# Altium footprint library Inductors.PcbLib: 12 footprints
Each footprint in its own frame and in the unit in brackets; x right, y up, seen from the top. Pads: shape width x height; smd on the part's side, far side on the other; paste and mask are expansions set on the pad; w line width, h text height; cw(c..) or ccw(c..) is an arc to the next point about the centre after c.
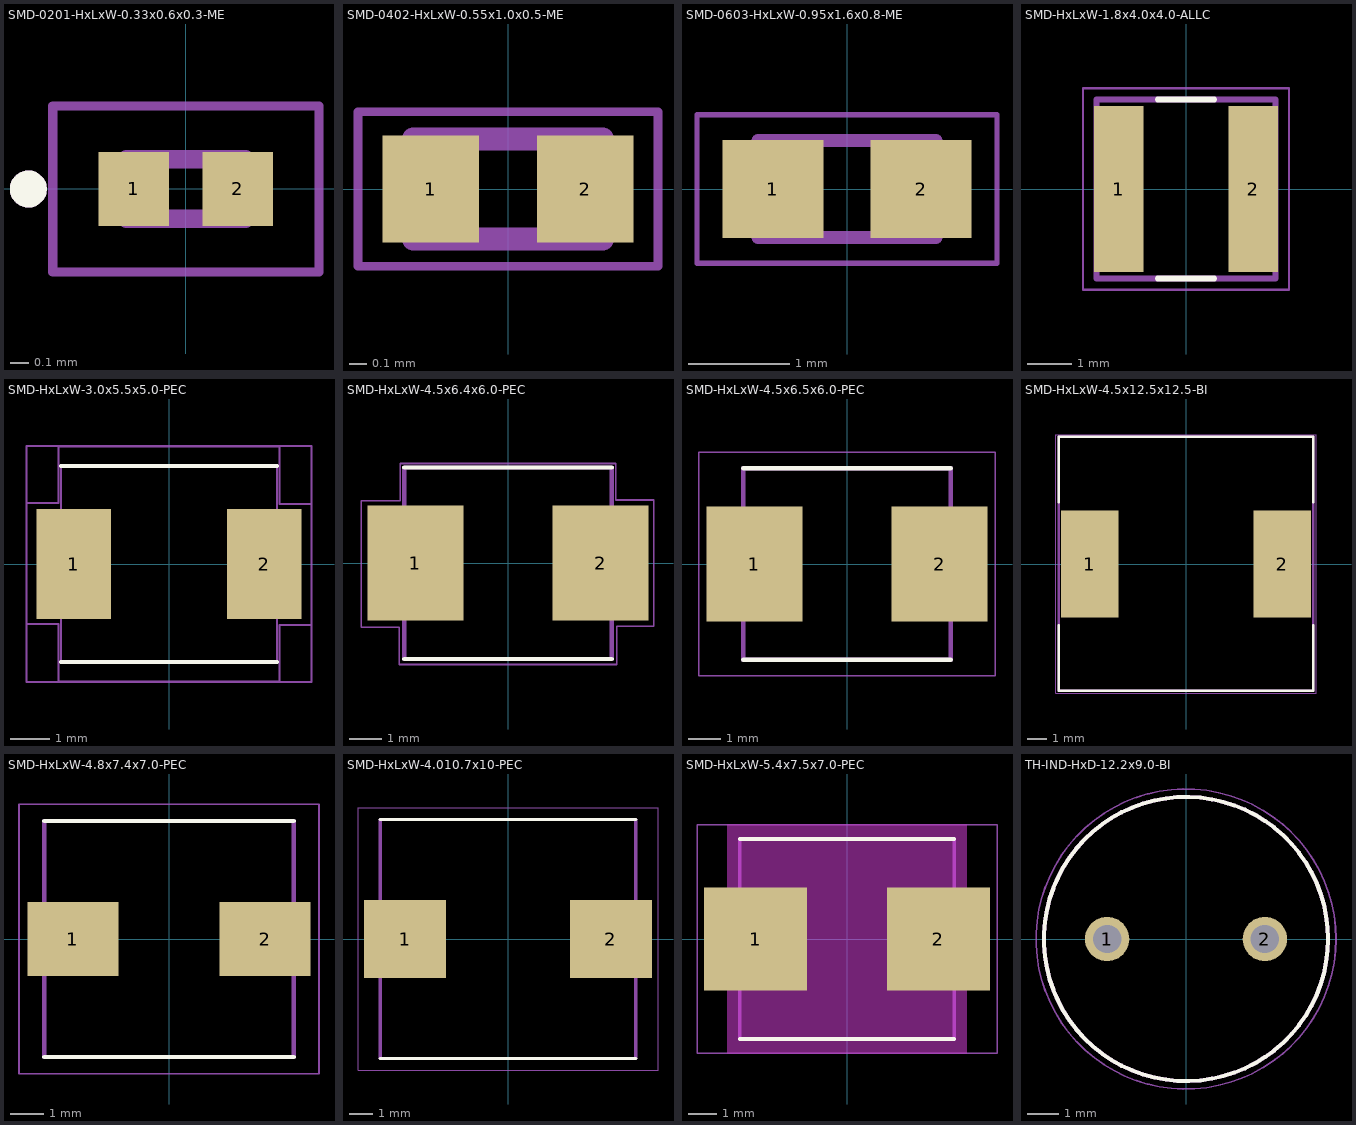
[diagram p0: the footprints below, top view; thin cyan lines are the x and y axes]

## SMD-0201-HxLxW-0.33x0.6x0.3-ME [mm]
pads (2):
  rect 0.38x0.4 smd: 1(-0.281,0) 2(0.281,0)
Top Overlay:
  circle w0.1: c-0.85,0 r0.05
Mechanical 13:
  circle w0.1: c-0.85,0 r0.05
  lines w0.1: -0.32,-0.16 0.32,-0.16 0.32,0.16 -0.32,0.16 -0.32,-0.16
Mechanical 15:
  lines w0.05: -0.718,-0.448 0.718,-0.448 0.718,0.448 -0.718,0.448 -0.718,-0.448
3D body "LQP03TN2N5B02D.step": height 0.33, standoff 0, extent -0.3,-0.15 0.3,0.15

## SMD-0402-HxLxW-0.55x1.0x0.5-ME [mm]
pads (2):
  rect 0.54x0.6 smd: 1(-0.432,0) 2(0.432,0)
Mechanical 1:
  lines w0.127: -0.53,-0.28 -0.53,0.28 0.53,0.28 0.53,-0.28 -0.53,-0.28
Mechanical 13:
  lines w0.127: -0.53,-0.28 -0.53,0.28 0.53,0.28 0.53,-0.28 -0.53,-0.28
Mechanical 15:
  lines w0.05: -0.838,-0.432 -0.838,0.432 0.838,0.432 0.838,-0.432 -0.838,-0.432
Mechanical 29 (Mech29):
  lines w0.05: -0.838,-0.432 -0.838,0.432 0.838,0.432 0.838,-0.432 -0.838,-0.432
  text "'.Designator'" at -0.889,-0.254 h0.4
3D body "LQG15HH47NJ02D.step": height 0.55, standoff 0, extent -0.5,-0.25 0.5,0.25

## SMD-0603-HxLxW-0.95x1.6x0.8-ME [mm]
pads (2):
  rect 1x0.97 smd: 1(-0.735,0) 2(0.735,0)
Mechanical 13:
  lines w0.127: -0.88,-0.48 -0.88,0.48 0.88,0.48 0.88,-0.48 -0.88,-0.48
Mechanical 15:
  lines w0.05: -1.485,-0.735 -1.485,0.735 1.485,0.735 1.485,-0.735 -1.485,-0.735
3D body "IND 0603.step": height 1, standoff 0, extent -0.8,-0.4 0.8,0.4

## SMD-HxLxW-1.8x4.0x4.0-ALLC [mm]
height 1.8
pads (2):
  rect 1.1x3.7 smd: 1(-1.5,0) 2(1.5,0)
Top Overlay:
  lines w0.127: -0.63,-2 0.63,-2 ; -0.63,2 0.63,2
Mechanical 1:
  lines w0.127: -2,-2 2,-2 2,2 -2,2 -2,-2
Mechanical 13:
  lines w0.127: -2,-2 2,-2 2,2 -2,2 -2,-2
Mechanical 15:
  lines w0.05: -2.3,-2.25 2.3,-2.25 2.3,2.25 -2.3,2.25 -2.3,-2.25
Mechanical 29 (Mech29):
  lines w0.05: -2.3,-2.25 2.3,-2.25 2.3,2.25 -2.3,2.25 -2.3,-2.25
  text "'.Designator'" at -2.413,-0.254 h1
3D body "Download_STP_WE-LQS-4025_rev1.stp": height 2.15, standoff 0, extent -2,-2 2,2

## SMD-HxLxW-3.0x5.5x5.0-PEC [mm]
pads (2):
  rect 1.905x2.79 smd: 1(-2.425,0) 2(2.425,0)
Top Overlay:
  lines w0.1: -2.75,-2.5 2.75,-2.5 ; -2.75,2.5 2.75,2.5
Mechanical 1:
  lines w0.05: -2.75,-2.5 -2.75,2.5 2.75,2.5 2.75,-2.5 -2.75,-2.5
Mechanical 13:
  lines w0.05: -2.75,-2.5 -2.75,2.5 2.75,2.5 2.75,-2.5 -2.75,-2.5
Mechanical 15:
  lines w0.05: -3.632,-1.524 -3.632,1.549 -2.819,1.549 -2.819,2.997 2.819,2.997 2.819,1.524 3.632,1.524 3.632,-1.549 2.819,-1.549 2.819,-2.997 -2.819,-2.997 -2.819,-1.524 -3.632,-1.524
Mechanical 29 (Mech29):
  lines w0.05: -3.628,-3 -3.628,3 3.628,3 3.628,-3 -3.628,-3
  text "'.Designator'" at -1.651,-0.381 h0.7
3D body "step_temp.STEP": height 3.01, standoff 0.01, extent -2.75,-2.5 2.75,2.5

## SMD-HxLxW-4.5x6.4x6.0-PEC [mm]
pads (2):
  rect 3x3.6 smd: 1(-2.9,0) 2(2.9,0)
Top Overlay:
  lines w0.127: -3.25,-3 3.25,-3 ; -3.25,3 3.25,3
Mechanical 13:
  lines w0.127: -3.25,-3 3.25,-3 3.25,3 -3.25,3 -3.25,-3
Mechanical 15:
  lines w0.05: -4.597,-2.007 -4.597,1.956 -3.378,1.956 -3.378,3.124 3.378,3.124 3.378,1.981 4.572,1.981 4.572,-1.981 3.404,-1.981 3.404,-3.175 -3.404,-3.175 -3.404,-2.007 -4.597,-2.007
3D body "step_temp.STEP": height 2.9, standoff -0.1, extent -3.25,-3 3.25,3

## SMD-HxLxW-4.5x6.5x6.0-PEC [mm]
pads (2):
  rect 3x3.6 smd: 1(-2.9,0) 2(2.9,0)
Top Overlay:
  lines w0.127: -3.25,-3 3.25,-3 ; -3.25,3 3.25,3
Mechanical 1:
  lines w0.127: -3.25,-3 3.25,-3 3.25,3 -3.25,3 -3.25,-3
Mechanical 13:
  lines w0.127: -3.25,-3 3.25,-3 3.25,3 -3.25,3 -3.25,-3
Mechanical 15:
  lines w0.05: -4.65,-3.5 4.65,-3.5 4.65,3.5 -4.65,3.5 -4.65,-3.5
Mechanical 29 (Mech29):
  lines w0.05: -4.65,-3.5 4.65,-3.5 4.65,3.5 -4.65,3.5 -4.65,-3.5
  text "'.Designator'" at -1.778,-0.254 h0.7
3D body "step_temp.STEP": height 4.47, standoff 0.04, extent -3.25,-3 3.25,3

## SMD-HxLxW-4.5x12.5x12.5-BI [mm]
pads (2):
  rect 2.9x5.4 smd: 1(-4.85,0) 2(4.85,0)
Top Overlay:
  lines w0.127: -6.401,-3.075 -6.401,-6.375 6.401,-6.375 6.401,-3.075 ; -6.401,3.101 -6.401,6.401 6.401,6.401 6.401,3.101
Mechanical 13:
  lines w0.127: -6.401,-6.375 6.401,-6.375 6.401,6.401 -6.401,6.401 -6.401,-6.375
Mechanical 15:
  lines w0.05: -6.55,-6.5 6.55,-6.5 6.55,6.5 -6.55,6.5 -6.55,-6.5
3D body "IND_BOURNS_SRR1240.step": height 4.5, standoff 0, extent -6.401,-6.403 6.401,6.403

## SMD-HxLxW-4.8x7.4x7.0-PEC [mm]
pads (2):
  rect 2.7x2.2 smd: 1(-2.85,0) 2(2.85,0)
Top Overlay:
  lines w0.127: -3.7,-3.5 3.7,-3.5 ; -3.7,3.5 3.7,3.5
Mechanical 1:
  lines w0.127: -3.7,-3.5 -3.7,3.5 3.7,3.5 3.7,-3.5 -3.7,-3.5
Mechanical 13:
  lines w0.127: -3.7,-3.5 -3.7,3.5 3.7,3.5 3.7,-3.5 -3.7,-3.5
Mechanical 15:
  lines w0.05: -4.45,-4 -4.45,4 4.45,4 4.45,-4 -4.45,-4
Mechanical 29 (Mech29):
  lines w0.05: -4.45,-4 -4.45,4 4.45,4 4.45,-4 -4.45,-4
  text "'.Designator'" at -1.778,-0.254 h0.7
3D body "step_temp.STEP": height 4.87, standoff 0.07, extent -3.7,-3.5 3.7,3.5

## SMD-HxLxW-4.010.7x10-PEC [mm]
pads (2):
  rect 3.439x3.254 smd: 1(-4.313,0) 2(4.313,0)
Top Overlay:
  lines w0.127: -5.35,-5 5.35,-5 ; -5.35,5 5.35,5
Mechanical 13:
  lines w0.127: -5.35,-5 -5.35,5 5.35,5 5.35,-5 -5.35,-5
Mechanical 15:
  lines w0.05: -6.282,-5.5 -6.282,5.5 6.282,5.5 6.282,-5.5 -6.282,-5.5
3D body "step_temp.STEP": height 4.1, standoff 0.1, extent -5.4,-5 5.4,5

## SMD-HxLxW-5.4x7.5x7.0-PEC [mm]
pads (2):
  rect 3.6x3.6 smd: 1(-3.2,0) 2(3.2,0)
Top Overlay:
  lines w0.127: -3.75,-3.5 3.75,-3.5 ; -3.75,3.5 3.75,3.5
Keep-Out Layer:
  region: 4.2,1.8 1.4,1.8 1.4,-1.8 4.2,-1.8 4.2,-4 -4.2,-4 -4.2,-1.8 -1.4,-1.8 -1.4,1.8 -4.2,1.8 -4.2,4 4.2,4
  region: 4.2,1.8 1.4,1.8 1.4,-1.8 4.2,-1.8 4.2,-4 -4.2,-4 -4.2,-1.8 -1.4,-1.8 -1.4,1.8 -4.2,1.8 -4.2,4 4.2,4
Mechanical 1:
  lines w0.127: -3.75,-3.5 3.75,-3.5 3.75,3.5 -3.75,3.5 -3.75,-3.5
Mechanical 13:
  lines w0.127: -3.75,-3.5 3.75,-3.5 3.75,3.5 -3.75,3.5 -3.75,-3.5
Mechanical 15:
  lines w0.05: -5.25,-4 5.25,-4 5.25,4 -5.25,4 -5.25,-4
Mechanical 29 (Mech29):
  lines w0.05: -5.25,-4 5.25,-4 5.25,4 -5.25,4 -5.25,-4
  text "'.Designator'" at -1.524,-0.127 h0.7
3D body "step_temp.STEP": height 5.4, standoff 0, extent -3.785,-3.5 3.785,3.5

## TH-IND-HxD-12.2x9.0-BI [mm]
height 12.2
pads (2):
  round 1.408 hole 0.9: 1(-2.5,0) 2(2.5,0)
Top Overlay:
  circle w0.127: c0,0 r4.5
Mechanical 1:
  circle w0.127: c0,0 r4.5
Mechanical 13:
  circle w0.127: c0,0 r4.5
Mechanical 15:
  circle w0.05: c0,0 r4.75
Mechanical 29 (Mech29):
  circle w0.05: c0,0 r4.75
  text "'.Designator'" at -5.08,-0.889 h2
3D body "RLB9012-102KL.step": height 12.2, standoff -30, extent -4.5,-4.5 4.5,4.5